# Altium footprint library POWER_LIB.PcbLib: 11 footprints
Each footprint in its own frame and in the unit in brackets; x right, y up, seen from the top. Pads: shape width x height; smd on the part's side, far side on the other; paste and mask are expansions set on the pad; w line width, h text height; cw(c..) or ccw(c..) is an arc to the next point about the centre after c.
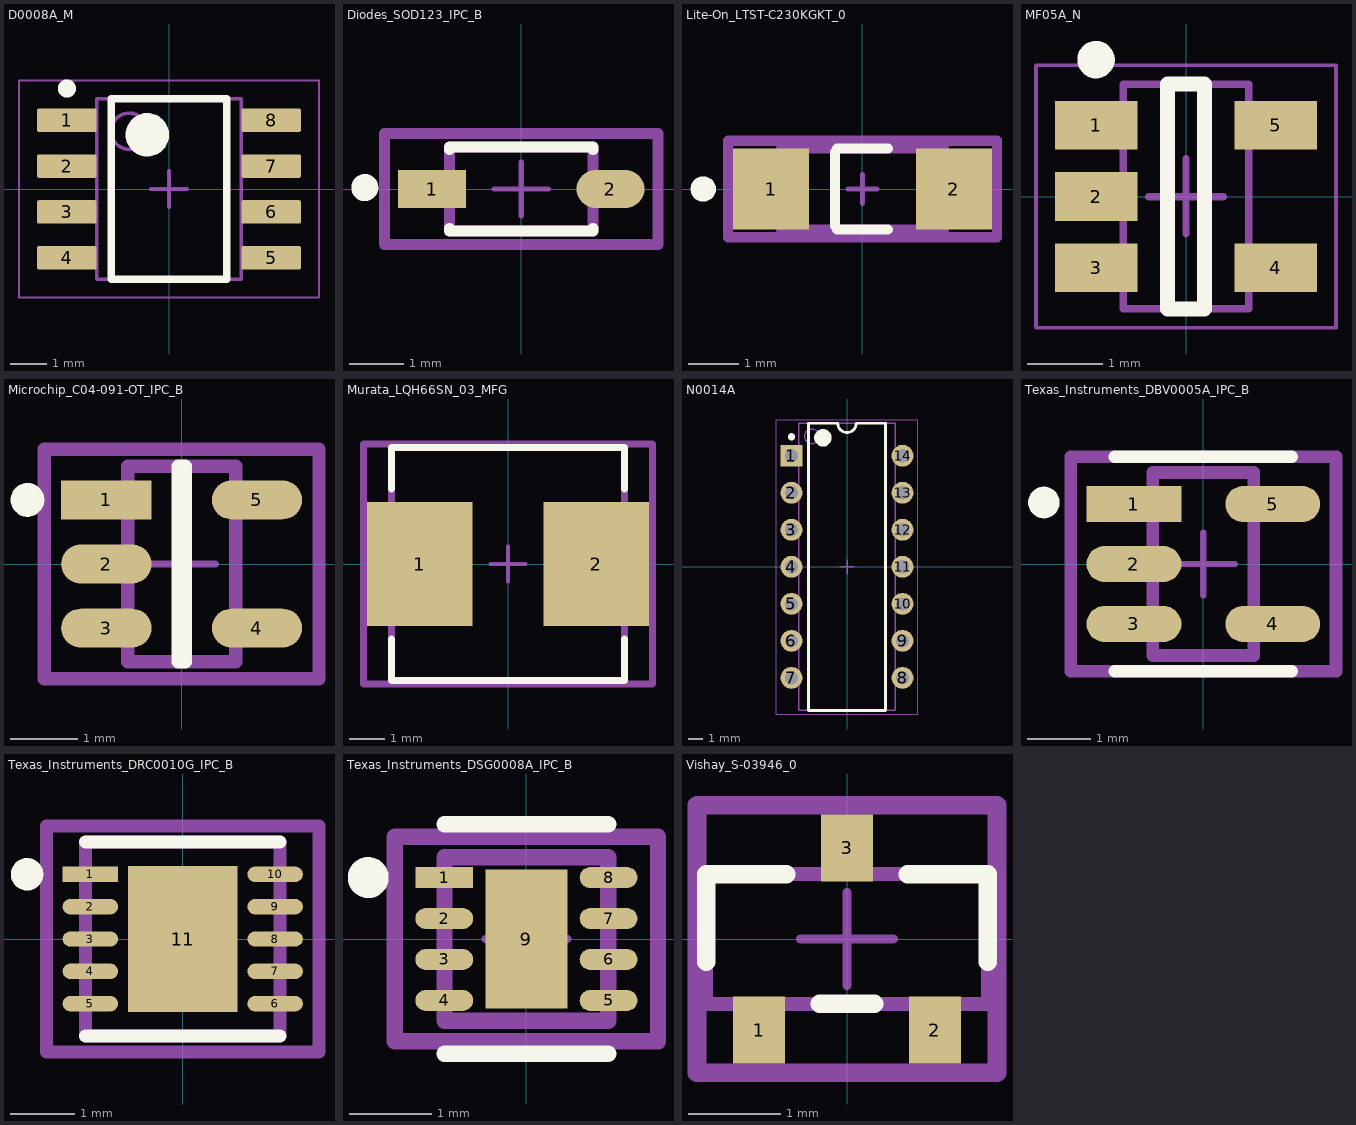
[diagram p0: the footprints below, top view; thin cyan lines are the x and y axes]

## D0008A_M [mm] "SOIC, 8-Leads, Body 5x4mm, Pitch 1.27mm, IPC Low Density"
height 1.75
pads (8):
  rrect15% 1.65x0.65 smd: 1(-2.825,1.905) 2(-2.825,0.635) 3(-2.825,-0.635) 4(-2.825,-1.905) 5(2.825,-1.905) 6(2.825,-0.635) 7(2.825,0.635) 8(2.825,1.905)
Top Overlay:
  circle w0.6: c-0.6,1.5 r0.3
  circle w0.25: c-2.825,2.78 r0.125
  lines w0.2: -1.6,-2.5 1.6,-2.5 1.6,2.5 -1.6,2.5 -1.6,-2.5
Mechanical 1:
  text ".Designator" at -1.397,-0.254 h0.6
Mechanical 13:
  circle w0.1: c-1.1,1.6 r0.5
  lines w0.1: -2,-2.5 2,-2.5 2,2.5 -2,2.5 -2,-2.5
Mechanical 15:
  lines w0.05: -4.15,-3 4.15,-3 4.15,3 -4.15,3 -4.15,-3
  lines w0.1: -0.5,0 0.5,0 ; 0,-0.5 0,0.5
3D body "SOIC-8akaD0008AakaM08A.stp": height 1.63, standoff 0, extent -3,-2.45 3,2.45

## Diodes_SOD123_IPC_B [mm]
pads (2):
  rect 1.257x0.702 smd paste+0 mask+0: 1(-1.65,0)
  rrect100% 1.257x0.702 smd paste+0 mask+0: 2(1.65,0)
Top Overlay:
  circle w0.25: c-2.895,0.026 r0.125
  lines w0.2: -1.325,-0.726 -1.325,-0.775 1.325,-0.775 1.325,-0.726 ; -1.325,0.726 -1.325,0.775 1.325,0.775 1.325,0.726
Mechanical 10:
  lines w0.2: -2.529,-1.025 2.529,-1.025 2.529,1.025 -2.529,1.025 -2.529,-1.025
  text ".Designator" at 0,0.188 h1
Mechanical 12:
  lines w0.2: -1.325,-0.775 1.325,-0.775 1.325,0.775 -1.325,0.775 -1.325,-0.775
Mechanical 15:
  lines w0.1: -0.5,0 0.5,0 ; 0,-0.5 0,0.5
  lines w0.2: -2.529,-1.025 2.529,-1.025 2.529,1.025 -2.529,1.025 -2.529,-1.025
3D body "Diode_Diodes_1N5819HW-7-F_eec.STEP": height 0.25, standoff 0, extent -2.529,-1.025 2.529,1.025

## Lite-On_LTST-C230KGKT_0 [mm]
pads (2):
  rect 1.5x1.6 smd paste+0 mask+0: 1(-1.8,0) 2(1.8,0)
Top Overlay:
  circle w0.25: c-3.135,0 r0.125
  lines w0.2: -0.543,-0.73 -0.543,0.73 ; -0.5,-0.8 0.5,-0.8 ; -0.5,0.8 0.5,0.8
Mechanical 10:
  lines w0.2: -2.65,-0.95 -2.65,0.95 2.65,0.95 2.65,-0.95 -2.65,-0.95
  text ".Designator" at 0,-0.001 h1
Mechanical 12:
  lines w0.2: -1.6,-0.8 -1.6,0.8 1.6,0.8 1.6,-0.8 -1.6,-0.8
Mechanical 15:
  lines w0.1: -0.285,0 0.285,0 ; 0,-0.285 0,0.285
  lines w0.2: -2.65,-0.95 -2.65,0.95 2.65,0.95 2.65,-0.95 -2.65,-0.95
3D body "Diode_Lite-On_LTST-C230KGKT_eec.STEP": height 0.25, standoff 0, extent -2.65,-0.95 2.65,0.95

## MF05A_N [mm] "SOT23, 5-Leads, Body 2.9x1.6mm, Pitch 0.95mm, Lead Span 2.8mm, IPC Medium Density"
height 1.19
pads (5):
  rect 1.1x0.65 smd: 1(-1.2,0.95) 2(-1.2,0) 3(-1.2,-0.95) 4(1.2,-0.95) 5(1.2,0.95)
Top Overlay:
  circle w0.25: c-1.2,1.825 r0.125
  lines w0.2: -0.25,-1.5 -0.25,1.5 0.25,1.5 0.25,-1.5 -0.25,-1.5
Mechanical 13:
  lines w0.1: -0.835,-1.495 0.835,-1.495 0.835,1.495 -0.835,1.495 -0.835,-1.495
Mechanical 15:
  lines w0.05: -2,-1.75 2,-1.75 2,1.75 -2,1.75 -2,-1.75
  lines w0.1: -0.5,0 0.5,0 ; 0,-0.5 0,0.5
3D body: height 1.19, standoff 0.05, extent -0.835,-1.495 0.835,1.495

## Microchip_C04-091-OT_IPC_B [mm]
pads (5):
  rect 1.338x0.578 smd paste+0 mask+0: 1(-1.116,0.95)
  rrect100% 1.338x0.578 smd paste+0 mask+0: 2(-1.116,0) 3(-1.116,-0.95) 4(1.116,-0.95) 5(1.116,0.95)
Top Overlay:
  circle w0.25: c-2.285,0.95 r0.125
  lines w0.2: -0.053,-1.45 -0.053,1.45 0.053,1.45 0.053,-1.45 -0.053,-1.45
Mechanical 10:
  lines w0.2: -2.035,-1.7 2.035,-1.7 2.035,1.7 -2.035,1.7 -2.035,-1.7
  text ".Designator" at 0,0.188 h1
Mechanical 12:
  lines w0.2: -0.8,-1.45 0.8,-1.45 0.8,1.45 -0.8,1.45 -0.8,-1.45
Mechanical 15:
  lines w0.1: -0.5,0 0.5,0 ; 0,-0.5 0,0.5
  lines w0.2: -2.035,-1.7 2.035,-1.7 2.035,1.7 -2.035,1.7 -2.035,-1.7

## Murata_LQH66SN_03_MFG [mm]
pads (2):
  rect 3x3.5 smd paste+0 mask+0: 1(-2.5,0) 2(2.5,0)
Top Overlay:
  lines w0.2: -3.3,-2.125 -3.3,-3.3 3.3,-3.3 3.3,-2.125 ; -3.3,2.125 -3.3,3.3 3.3,3.3 3.3,2.125
Mechanical 10:
  lines w0.2: -4.1,-3.4 -4.1,3.4 4.1,3.4 4.1,-3.4 -4.1,-3.4
  text ".Designator" at 0,0.188 h1
Mechanical 12:
  lines w0.2: -3.3,-3.3 -3.3,3.3 3.3,3.3 3.3,-3.3 -3.3,-3.3
Mechanical 15:
  lines w0.1: -0.5,0 0.5,0 ; 0,-0.5 0,0.5
  lines w0.2: -4.1,-3.4 -4.1,3.4 4.1,3.4 4.1,-3.4 -4.1,-3.4
3D body "Ind_Murata_LQH66SN103M03L_eec.STEP": height 0.25, standoff 0, extent -4.1,-3.4 4.1,3.4

## N0014A [mm] "DIP, 14-Leads, Body 19.7x6.6mm, Pitch 2.54mm"
height 5.08
pads (14):
  rect 1.5x1.5 hole 0.9: 1(-3.81,7.62)
  round 1.5 hole 0.9: 2(-3.81,5.08) 3(-3.81,2.54) 4(-3.81,0) 5(-3.81,-2.54) 6(-3.81,-5.08) 7(-3.81,-7.62) 8(3.81,-7.62) 9(3.81,-5.08) 10(3.81,-2.54) 11(3.81,0) 12(3.81,2.54) 13(3.81,5.08) 14(3.81,7.62)
Top Overlay:
  circle w0.25: c-3.81,8.92 r0.125
  circle w0.6: c-1.65,8.85 r0.3
  lines w0.2: -2.65,-9.85 -2.65,9.85 -0.635,9.85 ccw(c0,9.85) 0.635,9.85 2.65,9.85 2.65,-9.85 -2.65,-9.85
Mechanical 1:
  text ".Designator" at -3.048,-0.508 h1.2
Mechanical 13:
  circle w0.1: c-2.4,8.95 r0.5
  lines w0.1: -3.3,-9.85 -3.3,9.85 3.3,9.85 3.3,-9.85 -3.3,-9.85
Mechanical 15:
  lines w0.05: -4.85,-10.1 -4.85,10.1 4.85,10.1 4.85,-10.1 -4.85,-10.1
  lines w0.1: -0.5,0 0.5,0 ; 0,-0.5 0,0.5
3D body: height 2.66, standoff 0, extent -3.945,7.12 -3.675,8.12
3D body: height 2.93, standoff 2.66, extent -3.945,7.12 -3.3,8.12
3D body: height 0, standoff -1.6, extent -3.945,7.26 -3.675,7.98
3D body: height 2.66, standoff 0, extent -3.945,4.58 -3.675,5.58
3D body: height 2.93, standoff 2.66, extent -3.945,4.58 -3.3,5.58
3D body: height 0, standoff -1.6, extent -3.945,4.72 -3.675,5.44
3D body: height 2.66, standoff 0, extent -3.945,2.04 -3.675,3.04
3D body: height 2.93, standoff 2.66, extent -3.945,2.04 -3.3,3.04
3D body: height 0, standoff -1.6, extent -3.945,2.18 -3.675,2.9
3D body: height 2.66, standoff 0, extent -3.945,-0.5 -3.675,0.5
3D body: height 2.93, standoff 2.66, extent -3.945,-0.5 -3.3,0.5
3D body: height 0, standoff -1.6, extent -3.945,-0.36 -3.675,0.36
3D body: height 2.66, standoff 0, extent -3.945,-3.04 -3.675,-2.04
3D body: height 2.93, standoff 2.66, extent -3.945,-3.04 -3.3,-2.04
3D body: height 0, standoff -1.6, extent -3.945,-2.9 -3.675,-2.18
3D body: height 2.66, standoff 0, extent -3.945,-5.58 -3.675,-4.58
3D body: height 2.93, standoff 2.66, extent -3.945,-5.58 -3.3,-4.58
3D body: height 0, standoff -1.6, extent -3.945,-5.44 -3.675,-4.72
3D body: height 2.66, standoff 0, extent -3.945,-8.12 -3.675,-7.12
3D body: height 2.93, standoff 2.66, extent -3.945,-8.12 -3.3,-7.12
3D body: height 0, standoff -1.6, extent -3.945,-7.98 -3.675,-7.26
3D body: height 2.66, standoff 0, extent 3.675,-8.12 3.945,-7.12
3D body: height 2.93, standoff 2.66, extent 3.3,-8.12 3.945,-7.12
3D body: height 0, standoff -1.6, extent 3.675,-7.98 3.945,-7.26
3D body: height 2.66, standoff 0, extent 3.675,-5.58 3.945,-4.58
3D body: height 2.93, standoff 2.66, extent 3.3,-5.58 3.945,-4.58
3D body: height 0, standoff -1.6, extent 3.675,-5.44 3.945,-4.72
3D body: height 2.66, standoff 0, extent 3.675,-3.04 3.945,-2.04
3D body: height 2.93, standoff 2.66, extent 3.3,-3.04 3.945,-2.04
3D body: height 0, standoff -1.6, extent 3.675,-2.9 3.945,-2.18
3D body: height 2.66, standoff 0, extent 3.675,-0.5 3.945,0.5
3D body: height 2.93, standoff 2.66, extent 3.3,-0.5 3.945,0.5
3D body: height 0, standoff -1.6, extent 3.675,-0.36 3.945,0.36
3D body: height 2.66, standoff 0, extent 3.675,2.04 3.945,3.04
3D body: height 2.93, standoff 2.66, extent 3.3,2.04 3.945,3.04
3D body: height 0, standoff -1.6, extent 3.675,2.18 3.945,2.9
3D body: height 2.66, standoff 0, extent 3.675,4.58 3.945,5.58
3D body: height 2.93, standoff 2.66, extent 3.3,4.58 3.945,5.58
3D body: height 0, standoff -1.6, extent 3.675,4.72 3.945,5.44
3D body: height 2.66, standoff 0, extent 3.675,7.12 3.945,8.12
3D body: height 2.93, standoff 2.66, extent 3.3,7.12 3.945,8.12
3D body: height 0, standoff -1.6, extent 3.675,7.26 3.945,7.98
3D body: height 5.08, standoff 0.51, extent -3.3,-9.85 3.3,9.85

## Texas_Instruments_DBV0005A_IPC_B [mm]
pads (5):
  rect 1.505x0.572 smd paste+0 mask+0: 1(-1.1,0.95)
  rrect100% 1.505x0.572 smd paste+0 mask+0: 2(-1.1,0) 3(-1.1,-0.95) 4(1.1,-0.95) 5(1.1,0.95)
Top Overlay:
  circle w0.25: c-2.528,0.975 r0.125
  lines w0.2: -1.4,-1.7 1.4,-1.7 ; -1.4,1.7 1.4,1.7
Mechanical 10:
  lines w0.2: -2.103,-1.7 2.103,-1.7 2.103,1.7 -2.103,1.7 -2.103,-1.7
  text ".Designator" at 0,0 h1
Mechanical 12:
  lines w0.2: -0.8,-1.45 0.8,-1.45 0.8,1.45 -0.8,1.45 -0.8,-1.45
Mechanical 15:
  lines w0.1: -0.5,0 0.5,0 ; 0,-0.5 0,0.5
  lines w0.2: -2.103,-1.7 2.103,-1.7 2.103,1.7 -2.103,1.7 -2.103,-1.7
3D body "IC_Texas_Instruments_TPS3828-33DBVR_eec.STEP": height 0.25, standoff 0, extent -2.103,-1.7 2.103,1.7

## Texas_Instruments_DRC0010G_IPC_B [mm]
pads (11):
  rect 0.856x0.239 smd paste+0 mask+0: 1(-1.428,1)
  rrect100% 0.856x0.239 smd paste+0 mask+0: 2(-1.428,0.5) 3(-1.428,0) 4(-1.428,-0.5) 5(-1.428,-1) 6(1.428,-1) 7(1.428,-0.5) 8(1.428,0) 9(1.428,0.5) 10(1.428,1)
  rect 1.7x2.25 smd paste-1000 mask+0: 11(0,0)
Top Overlay:
  circle w0.25: c-2.406,1 r0.125
  lines w0.2: -1.5,-1.5 1.5,-1.5 ; -1.5,1.5 1.5,1.5
Top Paste:
  rectangle: -0.496,-0.771 0.496,0.771
Mechanical 10:
  lines w0.2: -2.106,-1.75 2.106,-1.75 2.106,1.75 -2.106,1.75 -2.106,-1.75
  text ".Designator" at 0,-0.001 h1
Mechanical 12:
  lines w0.2: -1.5,-1.5 1.5,-1.5 1.5,1.5 -1.5,1.5 -1.5,-1.5
Mechanical 15:
  lines w0.1: -0.5,0 0.5,0 ; 0,-0.5 0,0.5
  lines w0.2: -2.106,-1.75 2.106,-1.75 2.106,1.75 -2.106,1.75 -2.106,-1.75
3D body "IC_Texas_Instruments_TPS61232DRCR_eec.STEP": height 0.25, standoff 0, extent -2.106,-1.75 2.106,1.75

## Texas_Instruments_DSG0008A_IPC_B [mm]
pads (9):
  rect 0.706x0.257 smd paste+0 mask+0.051: 1(-1.003,0.75)
  rrect100% 0.706x0.257 smd paste+0 mask+0: 2(-1.003,0.25) 3(-1.003,-0.25) 4(-1.003,-0.75) 5(1.003,-0.75) 6(1.003,-0.25) 7(1.003,0.25)
  rrect100% 0.706x0.257 smd paste+0: 8(1.003,0.75)
  rect 1x1.7 smd paste-1000 mask+0.102: 9(0,0)
Top Overlay:
  circle w0.25: c-1.931,0.75 r0.125
  lines w0.2: -1,-1.4 1,-1.4 ; -1,1.4 1,1.4
Top Paste:
  rectangle: -0.273,-0.623 0.273,0.623
Mechanical 10:
  lines w0.2: -1.606,-1.25 -1.606,1.25 1.606,1.25 1.606,-1.25 -1.606,-1.25
Mechanical 12:
  lines w0.2: -1,-1 -1,1 1,1 1,-1 -1,-1
Mechanical 15:
  lines w0.1: -0.5,0 0.5,0 ; 0,-0.5 0,0.5
  lines w0.2: -1.606,-1.25 -1.606,1.25 1.606,1.25 1.606,-1.25 -1.606,-1.25

## Vishay_S-03946_0 [mm]
pads (3):
  rect 0.559x0.724 smd paste+0 mask+0: 1(-0.95,-0.984) 2(0.95,-0.984) 3(0,0.984)
Top Overlay:
  lines w0.2: -1.52,-0.248 -1.52,0.7 -0.654,0.7 ; -0.296,-0.7 0.296,-0.7 ; 0.654,0.7 1.52,0.7 1.52,-0.248
Mechanical 10:
  lines w0.2: -1.62,-1.446 1.62,-1.446 1.62,1.446 -1.62,1.446 -1.62,-1.446
Mechanical 12:
  lines w0.15: -1.52,-0.7 1.52,-0.7 1.52,0.7 -1.52,0.7 -1.52,-0.7
Mechanical 15:
  lines w0.1: -0.5,0 0.5,0 ; 0,-0.5 0,0.5
  lines w0.2: -1.62,-1.446 1.62,-1.446 1.62,1.446 -1.62,1.446 -1.62,-1.446
3D body "Trans_Vishay_SI2312CDS-T1-GE3_eec.STEP": height 0.25, standoff 0, extent -1.62,-1.446 1.62,1.446